# Altium footprint library Connector.PcbLib: 159 footprints (part 3 of 10)
Each footprint in its own frame and in the unit in brackets; x right, y up, seen from the top. Pads: shape width x height; smd on the part's side, far side on the other; paste and mask are expansions set on the pad; w line width, h text height; cw(c..) or ccw(c..) is an arc to the next point about the centre after c.
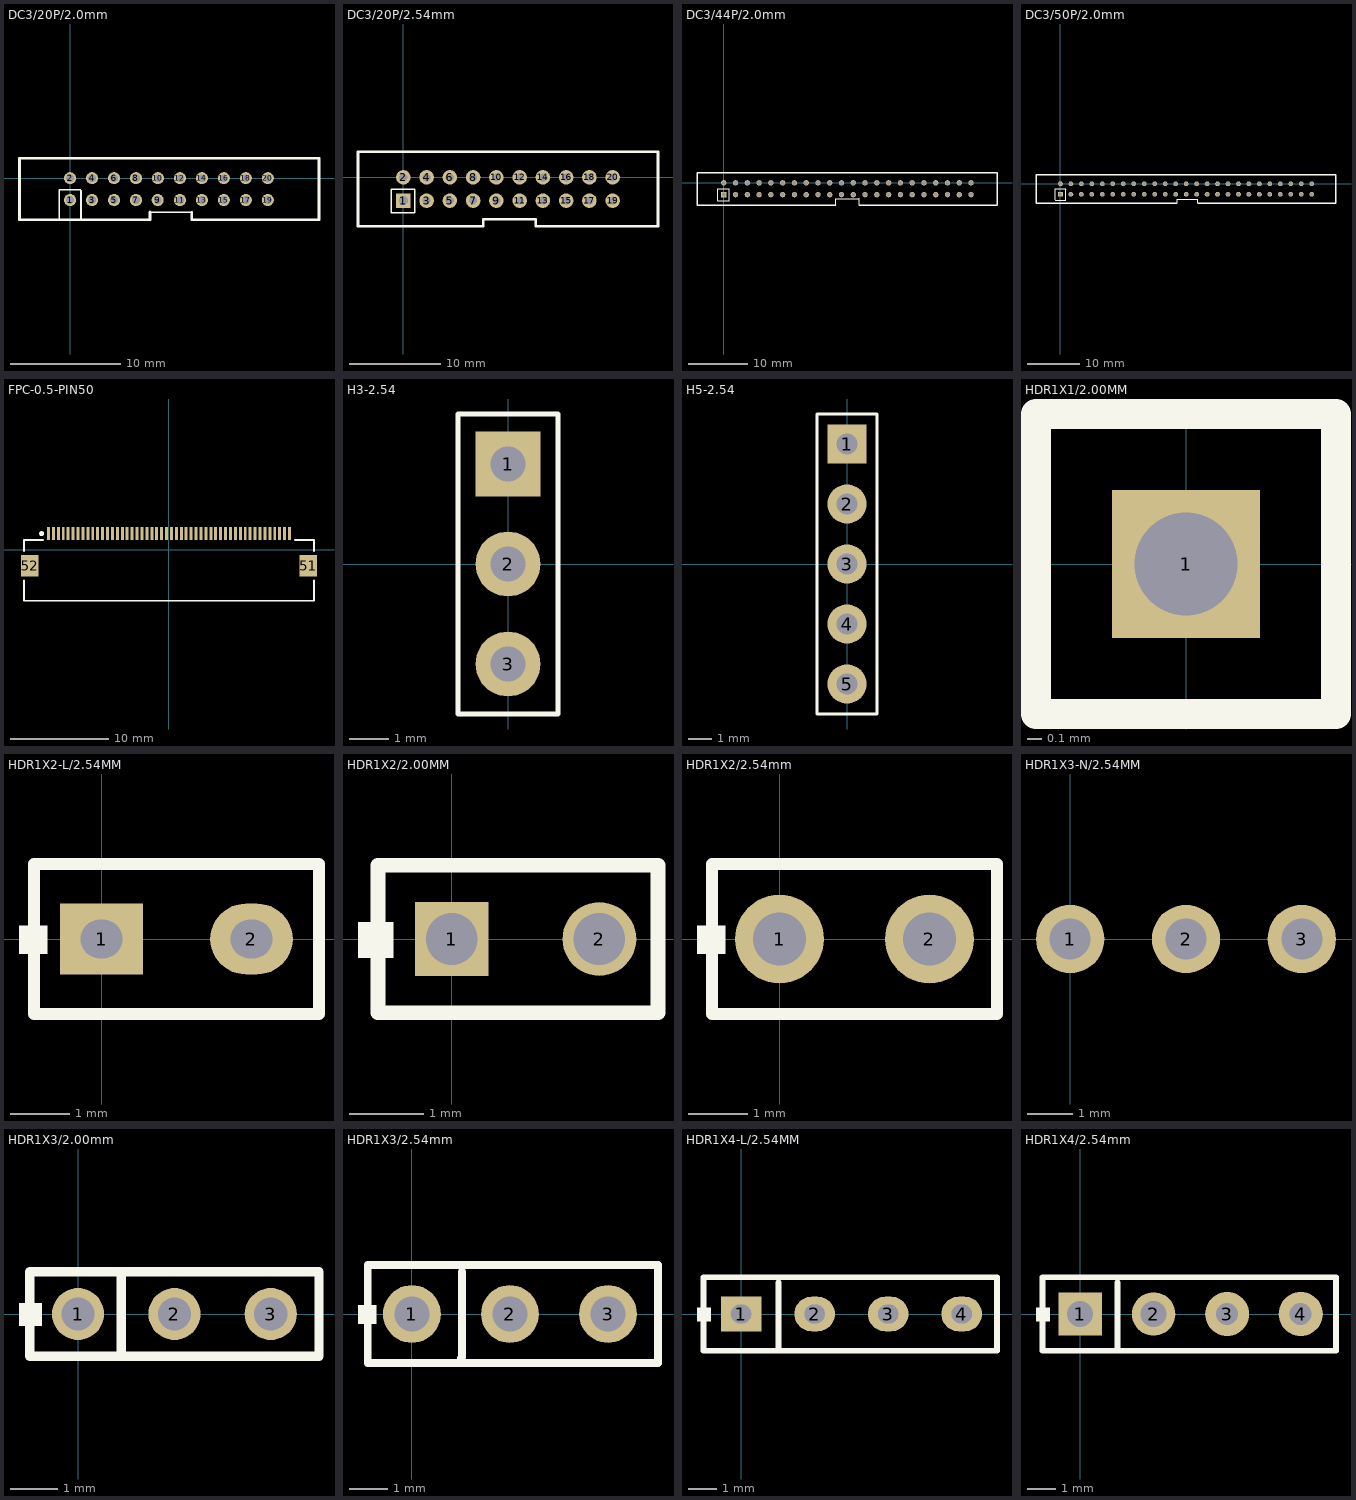
[diagram p2: the footprints below, top view; thin cyan lines are the x and y axes]

## DC3/20P/2.0mm [mm]
pads (20):
  round 1.1 hole 0.7: 1(0,-2) 2(0,0) 3(2,-2) 4(2,0) 5(4,-2) 6(4,0) 7(6,-2) 8(6,0) 9(7.976,-1.998) 10(8,0) 11(10,-1.998) 12(10,0) 13(12,-1.998) 14(12,0) 15(14,-1.998) 16(14,0) 17(16,-1.998) 18(16,0) 19(18,-1.998) 20(18,0)
Top Overlay:
  lines w0.152: -0.991,-3.734 -0.991,-1.092 -0.965,-1.067 0.914,-1.067 0.991,-1.143 0.991,-3.658
  lines w0.154: 7.264,-3.099 11.074,-3.099
  lines w0.254: -4.623,-3.023 ccw(c-4.623,-2.997) -4.597,-2.997 ; 7.264,-3.099 7.264,-3.073 7.264,-3.785 -4.597,-3.785 -4.597,1.803 0.21,1.803 22.657,1.803 22.657,-3.785 11.074,-3.785 11.074,-3.099

## DC3/20P/2.54mm [mm]
pads (20):
  rect 1.6x1.6 hole 1 paste+0: 1(0,-2.54)
  round 1.6 hole 0.9 paste+0: 2(0,0) 3(2.54,-2.54) 4(2.54,0) 5(5.08,-2.54) 6(5.08,0) 7(7.62,-2.54) 8(7.62,0) 9(10.16,-2.54) 10(10.16,0) 11(12.7,-2.54) 12(12.7,0) 13(15.24,-2.54) 14(15.24,0) 15(17.78,-2.54) 16(17.78,0) 17(20.32,-2.54) 18(20.32,0) 19(22.86,-2.54) 20(22.86,0)
Top Overlay:
  lines w0.152: 1.219,-1.422 1.219,-3.835 1.245,-3.861 -1.321,-3.861 -1.346,-3.886 -1.346,-1.27 -1.321,-1.295 1.219,-1.295 1.219,-1.372
  lines w0.254: 8.738,-5.334 8.738,-4.572 14.478,-4.572 14.478,-5.334
  lines w0.305: 8.738,-5.334 -4.953,-5.334 -4.953,2.794 27.813,2.794 27.813,-5.334 14.478,-5.334

## DC3/44P/2.0mm [mm]
pads (44):
  rect 0.9x0.9 hole 0.67 paste+0 mask+0.102: 1(0,-2)
  round 0.9 hole 0.67 paste+0 mask+0.102: 2(0,0) 3(2,-2) 4(2,0) 5(4,-2) 6(4,0) 7(6,-2) 8(6,0) 9(8,-2) 10(8,0) 11(10,-2) 12(10,0) 13(12,-2) 14(12,0) 15(14,-2) 16(14,0) 17(16,-2) 18(16,0) 19(18,-2) 20(18,0) 21(20,-2) 22(20,0) 23(22,-2) 24(22,0) 25(24,-2) 26(24,0) 27(26,-2) 28(26,0) 29(28,-2) 30(28,0) 31(30,-2) 32(30,0) 33(32,-2) 34(32,0) 35(34,-2) 36(34,0) 37(36,-2) 38(36,0) 39(38,-2) 40(38,0) 41(40,-2) 42(40,0) 43(42,-2) 44(42,0)
Top Overlay:
  lines w0.152: 0.889,-3.023 -1.041,-3.023 -1.041,-0.965 0.94,-0.965 0.965,-0.991 0.965,-2.997 ; 19.05,-3.759 19.05,-2.667 23.012,-2.667 23.038,-2.642 23.038,-3.759
  lines w0.254: 19.05,-3.759 -4.547,-3.759 -4.547,1.676 46.406,1.676 46.406,-3.759 23.038,-3.759

## DC3/50P/2.0mm [mm]
pads (50):
  rect 0.9x0.9 hole 0.67 paste+0 mask+0.102: 1(0,-2)
  round 0.9 hole 0.67 paste+0 mask+0.102: 2(0,0) 3(2,-2) 4(2,0) 5(4,-2) 6(4,0) 7(6,-2) 8(6,0) 9(8,-2) 10(8,0) 11(10,-2) 12(10,0) 13(12,-2) 14(12,0) 15(14,-2) 16(14,0) 17(16,-2) 18(16,0) 19(18,-2) 20(18,0) 21(20,-2) 22(20,0) 23(22,-2) 24(22,0) 25(24,-2) 26(24,0) 27(26,-2) 28(26,0) 29(28,-2) 30(28,0) 31(30,-2) 32(30,0) 33(32,-2) 34(32,0) 35(34,-2) 36(34,0) 37(36,-2) 38(36,0) 39(38,-2) 40(38,0) 41(40,-2) 42(40,0) 43(42,-2) 44(42,0) 45(44,-2) 46(44,0) 47(46,-2) 48(46,0) 49(48,-2) 50(48,0)
Top Overlay:
  lines w0.152: -1.016,-3.124 0.991,-3.124 ; -1.016,-3.073 -1.016,-0.965 0.94,-0.965 0.991,-1.016 0.991,-3.048 ; 22.301,-3.683 22.301,-2.972 26.238,-2.972 26.238,-3.734
  lines w0.254: 22.225,-3.734 -4.674,-3.734 -4.674,1.753 52.629,1.753 52.629,-3.734 26.314,-3.734

## FPC-0.5-PIN50 [mm] "Connector; FH12 Series; 50 Position; 0.5mm Spaced Top Contact"
height 2
pads (52):
  rect 0.3x1.3 smd: 1(-12.25,1.625) 2(-11.75,1.625) 3(-11.25,1.625) 4(-10.75,1.625) 5(-10.25,1.625) 6(-9.75,1.625) 7(-9.25,1.625) 8(-8.75,1.625) 9(-8.25,1.625) 10(-7.75,1.625) 11(-7.25,1.625) 12(-6.75,1.625) 13(-6.25,1.625) 14(-5.75,1.625) 15(-5.25,1.625) 16(-4.75,1.625) 17(-4.25,1.625) 18(-3.75,1.625) 19(-3.25,1.625) 20(-2.75,1.625) 21(-2.25,1.625) 22(-1.75,1.625) 23(-1.25,1.625) 24(-0.75,1.625) 25(-0.25,1.625) 26(0.25,1.625) 27(0.75,1.625) 28(1.25,1.625) 29(1.75,1.625) 30(2.25,1.625) 31(2.75,1.625) 32(3.25,1.625) 33(3.75,1.625) 34(4.25,1.625) 35(4.75,1.625) 36(5.25,1.625) 37(5.75,1.625) 38(6.25,1.625) 39(6.75,1.625) 40(7.25,1.625) 41(7.75,1.625) 42(8.25,1.625) 43(8.75,1.625) 44(9.25,1.625) 45(9.75,1.625) 46(10.25,1.625) 47(10.75,1.625) 48(11.25,1.625) 49(11.75,1.625) 50(12.25,1.625)
  rect 1.8x2.2 smd: 51(14.15,-1.625) 52(-14.15,-1.625)
Top Overlay:
  circle w0.25: c-12.95,1.625 r0.125
  lines w0.2: -14.75,-3.125 -14.75,-5.2 14.75,-5.2 14.75,-3.125 ; -14.75,-0.125 -14.75,1 -12.8,1 ; 12.8,1 14.75,1 14.75,-0.125

## H3-2.54 [mil] "H3-2.54"
pads (3):
  rect 65x65 hole 35: 1(0,100)
  round 65 hole 35: 2(0,0) 3(0,-100)
Top Overlay:
  lines w5: -50,-150 -50,150 50,150 50,-150 -50,-150
Mechanical 2:
Mechanical 4:
Mechanical 16:
  lines w0: -50,-150 -50,150 50,150 50,-150 -50,-150

## H5-2.54 [mil] "H5-2.54"
pads (5):
  rect 65x65 hole 35: 1(0,200)
  round 65 hole 35: 2(0,100) 3(0,0) 4(0,-100) 5(0,-200)
Top Overlay:
  lines w5: -50,-250 50,-250 50,250 -50,250 -50,-250
Mechanical 2:
Mechanical 4:
Mechanical 16:
  lines w0: -50,-250 50,-250 50,250 -50,250 -50,-250
Mechanical 23:
  text ">name" at 0,-100 h77.5

## HDR1X1/2.00MM [mm]
pads (1):
  rect 1x1 hole 0.7: 1(0,0)
Top Overlay:
  lines w0.2: -1.016,-1.016 1.016,-1.016 1.016,1.016 -1.016,1.016 -1.016,-1.016

## HDR1X2-L/2.54MM [mm]
pads (2):
  rect 1.4x1.2 hole 0.65 slot 0.7 at 0 deg: 1(0,0)
  oval 1.4x1.2 hole 0.65 slot 0.7 at 0 deg: 2(2.54,0)
Top Overlay:
  rectangle: -1.397,-0.254 -0.914,0.229
  lines w0.2: -1.143,-1.27 3.683,-1.27 3.683,1.27 -1.143,1.27 -1.143,-1.27

## HDR1X2/2.00MM [mm] "Connector; Header; 2 Position"
pads (2):
  rect 1x1 hole 0.7: 1(0,0)
  round 1 hole 0.7: 2(2,0)
Top Overlay:
  rectangle: -1.27,-0.254 -0.787,0.229
  lines w0.2: -1,-1 -1,1 2.794,1 2.794,-1 -1,-1

## HDR1X2/2.54mm [mm]
pads (2):
  round 1.5 hole 0.9: 1(0,0) 2(2.54,0)
Top Overlay:
  rectangle: -1.397,-0.254 -0.914,0.229
  lines w0.2: -1.143,-1.27 -1.143,1.27 3.683,1.27 3.683,-1.27 -1.143,-1.27
3D body: height 8.51, standoff -3.68, extent 1.246,-1.499 3.786,1.421
3D body: height 8.51, standoff -3.68, extent -1.294,-1.499 1.246,1.421

## HDR1X3-N/2.54MM [mm]
pads (3):
  round 1.5 hole 0.9: 1(0,0) 2(2.54,0) 3(5.08,0)

## HDR1X3/2.00mm [mm]
pads (3):
  round 1.1 hole 0.7: 1(0,0) 2(2.032,0) 3(4.064,0)
Top Overlay:
  rectangle: -1.245,-0.254 -0.762,0.229
  lines w0.2: 0.914,-0.762 0.914,0.813 ; -1.016,-0.889 5.08,-0.889 5.08,0.889 -1.016,0.889 -1.016,-0.889

## HDR1X3/2.54mm [mm]
pads (3):
  round 1.5 hole 0.9: 1(0,0) 2(2.54,0) 3(5.08,0)
Top Overlay:
  rectangle: -1.397,-0.254 -0.914,0.229
  lines w0.2: 1.27,-1.143 1.295,-1.118 1.295,1.092 ; -1.143,-1.27 6.375,-1.27 6.375,1.27 -1.143,1.27 -1.143,-1.27
3D body: height 8.51, standoff -3.68, extent 3.888,-1.451 6.428,1.469
3D body: height 8.51, standoff -3.68, extent 1.348,-1.451 3.888,1.469
3D body: height 8.51, standoff -3.68, extent -1.192,-1.451 1.348,1.469

## HDR1X4-L/2.54MM [mm]
pads (4):
  rect 1.4x1.2 hole 0.65 slot 0.7 at 0 deg: 1(0,0)
  oval 1.4x1.2 hole 0.65 slot 0.7 at 0 deg: 2(2.54,0) 3(5.08,0) 4(7.62,0)
Top Overlay:
  rectangle: -1.524,-0.254 -1.041,0.229
  lines w0.2: 1.295,-1.143 1.295,1.092 ; -1.295,-1.27 8.839,-1.27 8.839,1.27 -1.295,1.27 -1.295,-1.27

## HDR1X4/2.54mm [mm]
pads (4):
  rect 1.5x1.5 hole 0.9: 1(0,0)
  round 1.5 hole 0.9: 2(2.54,0)
  round 1.524 hole 0.762: 3(5.08,0) 4(7.62,0)
Top Overlay:
  rectangle: -1.524,-0.254 -1.041,0.229
  lines w0.2: 1.295,-1.143 1.295,1.092 ; -1.295,-1.27 -1.295,1.27 8.839,1.27 8.839,-1.27 -1.295,-1.27
3D body: height 8.51, standoff -3.68, extent -1.267,-1.476 1.273,1.444
3D body: height 8.51, standoff -3.68, extent 1.273,-1.476 3.813,1.444
3D body: height 8.51, standoff -3.68, extent 3.813,-1.476 6.353,1.444
3D body: height 8.51, standoff -3.68, extent 6.353,-1.476 8.893,1.444